# Altium schematic symbol library PBL - Capacitors.SCHLIB: 105 symbols (part 2 of 2)
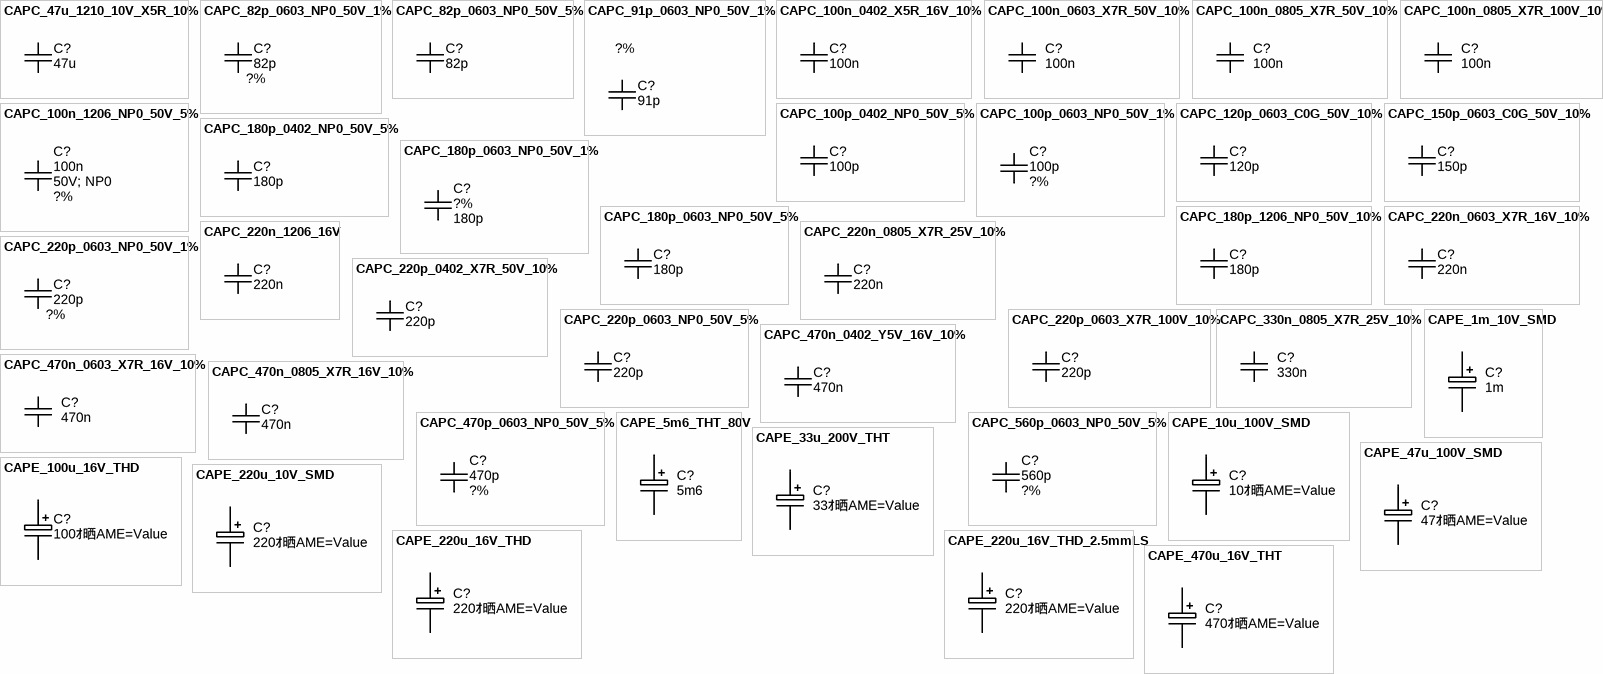
[diagram p3: symbols CAPC_47u_1210_10V_X5R_10% to CAPE_470u_16V_THT]

## CAPC_220n_0805_X7R_25V_10%
designator C?, comment value 220n  (hidden comment: approved sub OK)
Capacitor SMD Cer 220nF 10% 25V X7R 0805; Manufacturer 1: Murata Electronics North America; Manufacturer Part Number 1: GRM219R71E224KA01D; Tolerance: ?0%; Ratings: 25V; X7R; SCDType: undef; Package / Case: 0805 (2012 metric); Supplier 1: Digi-Key; Supplier Part Number 1: 490-1675-1-ND
footprint CAPC2012X135N (Chip Capacitor, Body 2.0x1.2mm, 0805, IPC Medium Density)
pins: 1, 2

## CAPC_220n_1206_16V
designator C?, comment value 220n  (hidden comment: approved sub OK)
Capacitor SMD Cer 220nF 10% 16V X7R 1206; Manufacturer 1: Murata; Manufacturer Part Number 1: GRM319R71C224KA01D; Tolerance: ?0%; Ratings: 16V; X7R; SCDType: spec; Package / Case: 1206 (3216 metric); Supplier 1: Mouser; Supplier Part Number 1: 81-GRM426X224K016D
footprint CAPC3216X180N (Chip Capacitor, Body 3.2x1.6mm, 1.8mm H, 1206, IPC Medium Density)
pins: 1, 2

## CAPC_220p_0402_X7R_50V_10%
designator C?, comment value 220p  (hidden comment: approved sub OK)
Capacitor SMD Cer 220pF 10% 0402 X7R 50V; Manufacturer 1: TDK Corporation; Manufacturer Part Number 1: C1005X7R1H221K050BA; Tolerance: ?0%; Ratings: 50V; X7R; SCDType: undef; Operating Temperature: -55ｰC ~ 125ｰC; Package / Case: 0402 (1005 Metric); Supplier 1: Digi-Key; Supplier Part Number 1: 445-1254-1-ND; ComponentLink1URL: http://product.tdk.com/capacitor/mlcc/en/documents/mlcc_commercial_general_en.pdf; ComponentLink1Description: http://product.tdk.com/capacitor/mlcc/en/documents/mlcc_commercial_general_en.pdf
footprint CAPC1005X55N (Chip Capacitor, Body 1.0x0.5mm, 0402, IPC Medium Density)
pins: 1, 2

## CAPC_220p_0603_NP0_50V_1%
designator C?, comment Tolerance: ?%  (hidden comment: 220p)
Capacitor SMD Cer 220pF 1% 50V NP0 0603; Manufacturer 1: AVX Corporation; Manufacturer Part Number 1: 06035A221FAT2A; Ratings: 50V; NP0; SCDType: spec; Operating Temperature: -55ｰC ~ 125ｰC; Package / Case: 0603 (1608 Metric); Size / Dimension: 0.063" L x 0.031" W (1.60mm x 0.80mm); Thickness (Max): 0.037" (0.95mm); Manufacturer 2: TDK Corporation; Manufacturer Part Number 2: C1608C0G1H221F080AA; Supplier 1: Digi-Key; Supplier Part Number 1: 478-3719-1-ND; ComponentLink1URL: http://www.avx.com/docs/Catalogs/ccog.pdf; ComponentLink1Description: http://www.avx.com/docs/Catalogs/ccog.pdf; Supplier 2: Digi-Key; Supplier Part Number 2: 445-5369-1-ND; ComponentLink2URL: http://www.tdk.com/pdf/tight_tol_B11.pdf; ComponentLink2Description: http://www.tdk.com/pdf/tight_tol_B11.pdf; Supplier 3: Digi-Key; Supplier Part Number 3: 399-7876-1-ND; Manufacturer 3: Kemet; Manufacturer Part Number 3: C0603C221F5GACTU; ComponentLink3URL: http://www.kemet.com/datasheets&C0603C221F5GACTU; ComponentLink3Description: http://www.kemet.com/datasheets&C0603C221F5GACTU; Value: 220p
footprint CAPC1608X90N (Chip Capacitor, Body 1.6x0.8mm, 0603, IPC Medium Density)
pins: 1, 2

## CAPC_220p_0603_NP0_50V_5%
designator C?, comment 220p
Capacitor SMD Cer 220pF 5% 50V NP0 0603; Manufacturer 1: Murata Electronics North America; Manufacturer Part Number 1: GRM1885C1H221JA01D; Tolerance: ?%; Ratings: 50V; NP0; Material: Ceramic NP0; SCDType: spec; Package / Case: 0603 (1608 metric); Supplier 1: Digi-Key; Supplier Part Number 1: 490-1435-1-ND; Value: 220p
footprint CAPC1608X90N (Chip Capacitor, Body 1.6x0.8mm, 0603, IPC Medium Density)
pins: 1, 2

## CAPC_220p_0603_X7R_100V_10%
designator C?, comment value 220p  (hidden comment: approved sub OK)
Capacitor SMD Cer 220pF 10% 0603 X7R 100V; Manufacturer 1: AVX Corporation; Manufacturer Part Number 1: 06031C221KAT2A; Tolerance: ?0%; Ratings: 100V; X7R; SCDType: undef; Operating Temperature: -55ｰC ~ 125ｰC; Package / Case: 0603 (1608 metric); Supplier 1: Digi-Key; Supplier Part Number 1: 478-1195-1-ND; ComponentLink1URL: http://www.avx.com/docs/Catalogs/cx7r.pdf; ComponentLink1Description: http://www.avx.com/docs/Catalogs/cx7r.pdf
footprint CAPC1608X90N (Chip Capacitor, Body 1.6x0.8mm, 0603, IPC Medium Density)
pins: 1, 2

## CAPC_330n_0805_X7R_25V_10%
designator C?, comment value 330n  (hidden comment: approved sub OK)
Capacitor SMD Cer 330nF 10% 25V X7R 0805; Manufacturer 1: Kemet; Manufacturer Part Number 1: C0805C334K3RACTU; Tolerance: ?0%; Ratings: 25V; X7R; Material: ceramic; SCDType: spec; Package / Case: 0805 (2012 metric); ComponentLink1URL: http://www.kemet.com/datasheets&C0805C334K3RACTU; ComponentLink1Description: http://www.kemet.com/datasheets&C0805C334K3RACTU; Supplier 1: Digi-Key; Supplier Part Number 1: 399-8071-1-ND
footprint CAPC2012X135N (Chip Capacitor, Body 2.0x1.2mm, 0805, IPC Medium Density)
pins: 1, 2

## CAPC_470n_0402_Y5V_16V_10%
designator C?, comment 470n
Capacitor SMD Cer 470nF -20% +80% 16V Y5V 0402; Manufacturer 1: Murata Electronics North America; Manufacturer Part Number 1: GRM155F51C474ZA01D; Tolerance: ?0%; Ratings: 16V; Y5V; SCDType: spec; Operating Temperature: -55ｰC ~ 125ｰC; Package / Case: 0402 (1005 Metric); Size / Dimension: 0.039" L x 0.020" W (1.00mm x 0.50mm); Supplier 1: Digi-Key; Supplier Part Number 1: 490-3274-1-ND; ComponentLink1URL: http://psearch.murata.com/capacitor/product/GRM155F51C474ZA01#.pdf; ComponentLink1Description: http://psearch.murata.com/capacitor/product/GRM155F51C474ZA01#.pdf; Value: 470n
footprint CAPC1005X55N (Chip Capacitor, Body 1.0x0.5mm, 0402, IPC Medium Density)
pins: 1, 2

## CAPC_470n_0603_X7R_16V_10%
designator C?, comment 470n
Capacitor SMD Cer 470nF 10% 16V X7R 0603; Manufacturer 1: Murata Electronics North America; Manufacturer Part Number 1: GRM188R71C474KA88D; Tolerance: ?0%; Ratings: 16V; X7R; Material: ceramic; SCDType: spec; Package / Case: 0603 (1608 metric); Manufacturer 2: TDK Corporation; Manufacturer Part Number 2: C1608X7R1C474K; Supplier 1: Digi-Key; Supplier Part Number 1: 490-3295-2-ND; Supplier 2: Digi-Key; Supplier Part Number 2: 445-5192-2-ND; Supplier 3: Digi-Key; Supplier Part Number 3: 587-1250-2-ND; Manufacturer 3: Taiyo Yuden; Manufacturer Part Number 3: EMK107B7474KA-T; Manufacturer 4: Samsung; Manufacturer Part Number 4: CL10B474KONE; ComponentLink1URL: http://psearch.murata.com/capacitor/product/GRM188R71C474KA88#.pdf; ComponentLink1Description: http://psearch.murata.com/capacitor/product/GRM188R71C474KA88#.pdf; ComponentLink2URL: http://product.tdk.com/capacitor/mlcc/en/documents/mlcc_commercial_general_en.pdf; ComponentLink2Description: http://product.tdk.com/capacitor/mlcc/en/documents/mlcc_commercial_general_en.pdf; ComponentLink3URL: http://www.yuden.co.jp/or/product/category/capacitor/EMK107B7474KA-T.pdf; ComponentLink3Description: http://www.yuden.co.jp/or/product/category/capacitor/EMK107B7474KA-T.pdf; Value: 470n
footprint CAPC1608X90N (Chip Capacitor, Body 1.6x0.8mm, 0603, IPC Medium Density)
pins: 1, 2

## CAPC_470n_0805_X7R_16V_10%
designator C?, comment value 470n  (hidden comment: approved sub OK)
Capacitor SMD Cer 470nF 10% 16V X7R 0805; Manufacturer 1: AVX Corporation; Manufacturer Part Number 1: 0805YC474KAT2A; Tolerance: ?0%; Ratings: 16V; X7R; SCDType: undef; Supplier 1: Digi-Key; Supplier Part Number 1: 478-1403-1-ND; Operating Temperature: -55ｰC ~ 125ｰC; Package / Case: 0805 (2012 metric)
footprint CAPC2012X135N (Chip Capacitor, Body 2.0x1.2mm, 0805, IPC Medium Density)
pins: 1, 2

## CAPC_470p_0603_NP0_50V_5%
designator C?, comment value 470p  Tolerance: ?%  (hidden comment: approved sub OK)
Capacitor SMD Cer 470pF 5% 50V NP0 0603; Manufacturer 1: AVX Corporation; Manufacturer Part Number 1: 06035A471JAT2A; Ratings: 50V; NP0; Material: ceramic; SCDType: spec; Package / Case: 0603 (1608 metric); Supplier 1: Digi-Key; Supplier Part Number 1: 478-1183-1-ND; Capacitance: 470pF; Voltage - Rated: 50V; Mounting Type: Surface Mount, MLCC; Operating Temperature: -55ｰC ~ 125ｰC; Applications: General Purpose; Size / Dimension: 0.063" L x 0.032" W (1.60mm x 0.81mm); Height - Seated (Max): -; Thickness (Max): 0.035" (0.90mm); Lead Spacing: -; Lead Style: -; ComponentLink1URL: http://www.avx.com/docs/Catalogs/ccog.pdf; ComponentLink1Description: http://www.avx.com/docs/Catalogs/ccog.pdf
footprint CAPC1608X90N (Chip Capacitor, Body 1.6x0.8mm, 0603, IPC Medium Density)
pins: 1, 2

## CAPC_560p_0603_NP0_50V_5%
designator C?, comment value 560p  Tolerance: ?%  (hidden comment: approved sub OK)
Capacitor SMD Cer 560pF 5% 50V NP0 0603; Manufacturer 1: AVX Corporation; Manufacturer Part Number 1: 06035A561JAT2A; Ratings: 50V; NP0; Material: ceramic; Capacitance: 470pF; SCDType: spec; Package / Case: 0603 (1608 metric); Voltage - Rated: 50V; Mounting Type: Surface Mount, MLCC; Operating Temperature: -55ｰC ~ 125ｰC; Applications: General Purpose; Size / Dimension: 0.063" L x 0.032" W (1.60mm x 0.81mm); Height - Seated (Max): -; Thickness (Max): 0.035" (0.90mm); Lead Spacing: -; Lead Style: -; ComponentLink1URL: http://www.avx.com/docs/Catalogs/ccog.pdf; ComponentLink1Description: http://www.avx.com/docs/Catalogs/ccog.pdf; Supplier 1: Digi-Key; Supplier Part Number 1: 478-1184-1-ND
footprint CAPC1608X90N (Chip Capacitor, Body 1.6x0.8mm, 0603, IPC Medium Density)
pins: 1, 2

## CAPE_1m_10V_SMD
designator C?, comment 1m
Capacitor SMD Alum Elec 1mF 20% 10V; Manufacturer 1: Panasonic - ECG; Manufacturer Part Number 1: EEE-FK1A102P; Ratings: 10V; 105ｰC; Tolerance: ?0%; Material: Al; Impedance: 80 mOhm; SCDType: spec; Package / Case: Radial - Surface Mount; Supplier 1: Digi-Key; Supplier Part Number 1: PCE3772CT-ND; Height - Seated (Max): 0.402" (10.20mm); Size / Dimension: 0.394" Dia (10.00mm); Value: 1m
footprint CAP_ELEC_Size G (Capacitor, polarized, aluminum can; 10.0x10.2mm DxH)
pins: 1, 2

## CAPE_5m6_THT_80V
designator C?, comment 5m6
Capacitor THT Electrolytic 5600uF 20% 80V; Manufacturer 1: Panasonic - ECG; Manufacturer Part Number 1: ECO-S1KP562DA; Tolerance: ?0%; Material: Aluminum Electrolytic; SCDType: undef; Package / Case: 30.00mm Dia x 45.00mm H; Ratings: 80V; Supplier 1: Digi-Key; Supplier Part Number 1: P7374-ND; Value: 5m6
footprint CAPE10.0MM_Rad_30x45mm (Footprint not found)
pins: 1, 2

## CAPE_10u_100V_SMD
designator C?
Capacitor SMD Electrolytic 10uF 20% 100V Radial; Manufacturer: Panasonic - ECG; Manufacturer Part Number: EEE-2AA100UP; Tolerance: ?0%; Material: Aluminum Electrolytic; SCDType: spec; Package / Case: Radial - Surface Mount; Ratings: 100V; Supplier 1: Digi-Key; Supplier Part Number 1: PCE3966CT-ND
footprint CAP_ELEC_Size E (Capacitor, polarized, aluminum can; 8.0x6.2mm DxH)
pins: 1, 2
text: 10ｵ晒AME=Value

## CAPE_33u_200V_THT
designator C?
Capacitor THT Alum Elec 33uF 20% 200V; Manufacturer 1: Panasonic - ECG; Manufacturer Part Number 1: EEU-ED2D330; Ratings: 200V; 105ｰC; Tolerance: ?0%; Material: Al; SCDType: undef; Package / Case: Radial; Supplier 1: Digi-Key; Supplier Part Number 1: P13523-ND
footprint CAPE5.0mm
pins: 1, 2
text: 33ｵ晒AME=Value

## CAPE_47u_100V_SMD
designator C?
Capacitor SMD Electrolytic 47uF 20% 100V Radial; Manufacturer 1: Panasonic - ECG; Manufacturer Part Number 1: EEV-TG2A470Q; Tolerance: ?0%; Material: Aluminum Electrolytic; SCDType: undef; Package / Case: Radial - Surface Mount; Ratings: 100V; Supplier 1: Digi-Key; Supplier Part Number 1: PCE3701CT-ND
footprint CAP_ELEC_Size H13 (Capacitor, polarized, aluminum can; 12.5x13.5mm DxH)
pins: 1, 2
text: 47ｵ晒AME=Value

## CAPE_100u_16V_THD
designator C?
Capacitor THD Electrolytic 100uF 20% 16V Radial; Manufacturer: Panasonic - ECG; Manufacturer Part Number: ECA-1CM101; Tolerance: ?0%; Material: Aluminum Electrolytic; SCDType: spec; Package / Case: Radial - Through hole; Ratings: 16V; Supplier 1: Digi-Key; Supplier Part Number 1: P5138-ND
footprint CAPAE200P550X1200_FLAT2
pins: 1, 2
text: 100ｵ晒AME=Value

## CAPE_220u_10V_SMD
designator C?
Capacitor SMD Alum Elec 220uF 20% 10V; Manufacturer 1: Panasonic - ECG; Manufacturer Part Number 1: EEE-FK1A221P; Ratings: 10V; 105ｰC; Tolerance: ?0%; Material: Al; SCDType: undef; Package / Case: Radial - Surface Mount; Supplier 1: Digi-Key; Supplier Part Number 1: PCE3775CT-ND
footprint CAP_ELEC_Size E (Capacitor, polarized, aluminum can; 6.20mm L X 8mm D)
pins: 1, 2
text: 220ｵ晒AME=Value

## CAPE_220u_16V_THD
designator C?
Capacitor THT Alum Elec 220uF 20% 16V; Manufacturer 1: Nichicon; Manufacturer Part Number 1: UPW1C221MPD; Ratings: 16V; 80ｰC; Tolerance: ?0%; Material: Al; SCDType: undef; Manufacturer 2: Zhuhai Gree Xinyuan Electric; Manufacturer Part Number 2: CD11C-220-16V; Package / Case: radial 8.0D x 7.0H x 3.5mm pitch; Supplier 1: Digi-Key; Supplier Part Number 1: 493-1783-ND
footprint CAPE3.5mm
pins: 1, 2
text: 220ｵ晒AME=Value

## CAPE_220u_16V_THD_2.5mmLS
designator C?
Capacitor THT Alum Elec 220uF 20% 16V 2.5mmLS; Manufacturer 1: Nichicon; Manufacturer Part Number 1: UVR1C221MED; Ratings: 16V; 80ｰC; Tolerance: ?0%; Material: Al; SCDType: undef; Package / Case: radial 6.3D x 11.0H x 2.5mm pitch; Supplier 1: Digi-Key; Supplier Part Number 1: 493-1041-ND
footprint CAPE2.5mm_max6.8x12.5mm
pins: 1, 2
text: 220ｵ晒AME=Value

## CAPE_470u_16V_THT
designator C?
Capacitor THT Alum Elec 470uF 20% 16V; Manufacturer 1: NICHICON; Manufacturer Part Number 1: UHM1C471MPD6; Ratings: 16V; 105ｰC; Tolerance: ?0%; Material: Al Electrolytic; SCDType: undef; Package / Case: Radial; Supplier 1: Newark; Supplier Part Number 1: 54K8151; Manufacturer 2: JD; Manufacturer Part Number 2: GT470UF16V_10x12mm
footprint CAPE10.0MM_Rad_10x14mm (10mm Pitch Radial Capacitor 10x14mm DxH)
pins: 1, 2
text: 470ｵ晒AME=Value

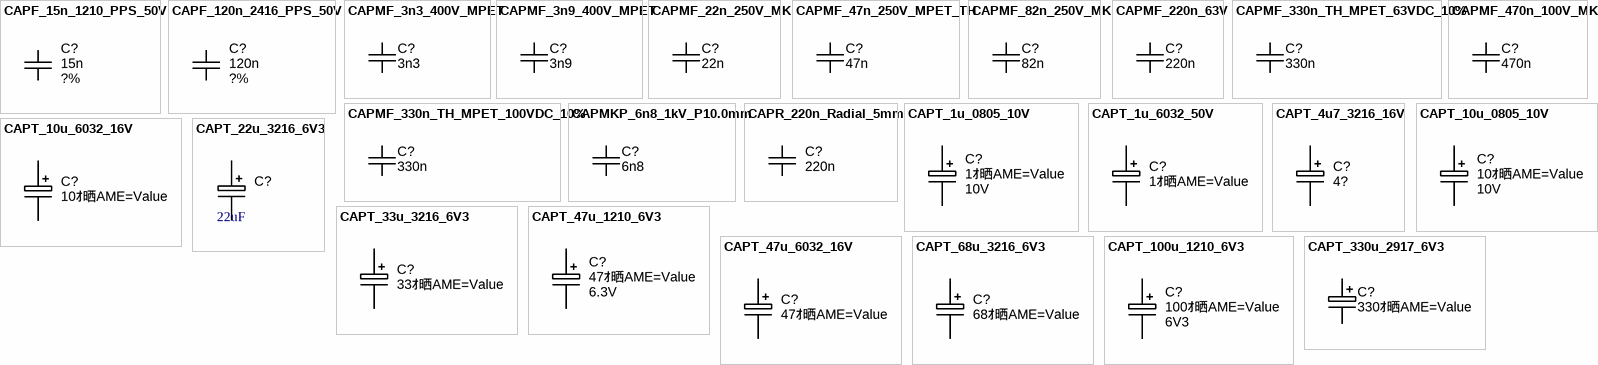
[diagram p2: symbols CAPF_15n_1210_PPS_50V to CAPT_330u_2917_6V3]

## CAPF_15n_1210_PPS_50V
designator C?, comment value 15n  Tolerance: ?%  (hidden comment: Polyphenylene Sulphide (PPS))
Capacitor SMD PPS Film 15nF 2% 50V 1210; Manufacturer 1: Panasonic - ECG; Manufacturer Part Number 1: ECH-U1H153GX5; Ratings: 50 V; PPS Film; SCDType: spec; Package / Case: 1210 (3225 Metric); Material: Polyphenylene Sulphide (PPS); Supplier 1: Digi-Key; Supplier Part Number 1: PCF1310CT-ND; Voltage Rating - DC: 50V; Operating Temperature: -55ｰC ~ 125ｰC; Mounting Type: Surface Mount; ComponentLink1URL: http://industrial.panasonic.com/www-cgi/jvcr13pz.cgi?E+PZ+3+ABD0013+ECHU1H153GX5+7+WW; ComponentLink1Description: http://industrial.panasonic.com/www-cgi/jvcr13pz.cgi?E+PZ+3+ABD0013+ECHU1H153GX5+7+WW; Height - Seated (Max): 0.051" (1.30mm)
footprint CAPC3225X220N (Chip Capacitor, Body 3.2x2.5mm, 1210, IPC Medium Density)
pins: 1, 2

## CAPF_120n_2416_PPS_50V
designator C?, comment value 120n  Tolerance: ?%  (hidden comment: Polyphenylene Sulphide (PPS))
Capacitor SMD PPS Film 120nF 2% 50V 2416; Manufacturer 1: Panasonic - ECG; Manufacturer Part Number 1: ECH-U1H124GX9; Ratings: 50 V; PPS Film; SCDType: spec; Package / Case: 2416 (6041 Metric); Supplier 1: Digi-Key; Supplier Part Number 1: PCF1553CT-ND; Material: Polyphenylene Sulphide (PPS)
footprint CAPC6041X210N (Stacked film capacitor, Body 6.0x4.1mm, 2416, IPC Nominal settings)
pins: 1, 2

## CAPMF_3n3_400V_MPET
designator C?, comment 3n3
Capacitor THD Metallized PET Film 3.3nF 10% 400V; Manufacturer 1: Wing Fu Technology; Manufacturer Part Number 1: CL21-332-K-400V-7.5; Tolerance: ?0%; Material: Metallized Polyester; SCDType: spec; Package / Case: 10.5L x 6.0W x 9.0H x 7.5mm Pitch; Ratings: 400V; Value: 3n3
footprint CAPMF5.0-7.5mm_SL (Capacitor, THT, Metallized Polyester Film)
pins: 1, 2

## CAPMF_3n9_400V_MPET
designator C?, comment 3n9
Capacitor THD Metallized PET Film 3.9nF 10% 400V; Manufacturer 1: Wing Fu Technology; Manufacturer Part Number 1: CL21-392-K-400V-7.5; Tolerance: ?0%; Material: Metallized Polyester; SCDType: spec; Package / Case: 10.5L x 6.0W x 9.0H x 7.5mm Pitch; Ratings: 400V; Value: 3n9
footprint CAPMF5.0-7.5mm_SL (Capacitor, THT, Metallized Polyester Film)
pins: 1, 2

## CAPMF_22n_250V_MK
designator C?, comment 22n
Capacitor THD MK Film 22nF 10% 250V; Manufacturer 1: Panasonic - ECG; Manufacturer Part Number 1: ECQ-E2223KF; Tolerance: ?0%; Material: Metallized Polyester; SCDType: undef; Package / Case: 12.0L x 5.5T x 9.0H x 10.0mm Pitch; Ratings: 250V; Supplier 1: Digi-Key; Supplier Part Number 1: EF2223-ND; Value: 22n
footprint CAPMF12.5x4.5x9.0x10mmLS (Capacitor, MF, Thru-Hole, Dipped Radial; Body 12.5 x 4.5 x 9.0 mm (WxTxH) Pin Spacing 10.0 mm (typ))
pins: 1, 2

## CAPMF_47n_250V_MPET_TH
designator C?, comment 47n
Capacitor THD Metallized PET Film 47nF 5% 250V; Manufacturer 1: EPCOS Inc; Manufacturer Part Number 1: B32529C3473J; Tolerance: ?%; Ratings: 250VDC; 160VAC; Material: Metallized Polyester; Dielectric Material: Polyester, Metallized; SCDType: source; Supplier 1: Digi-Key; Supplier Part Number 1: 495-1190-ND; ESR (Equivalent Series Resistance): -; Operating Temperature: -55ｰC ~ 125ｰC; Size / Dimension: 0.284" L x 0.138" W (7.20mm x 3.50mm); Height - Seated (Max): 0.315" (8.00mm); ComponentLink1URL: http://www.epcos.com/inf/20/20/db/fc_2009/MKT_B32520_529.pdf; ComponentLink1Description: http://www.epcos.com/inf/20/20/db/fc_2009/MKT_B32520_529.pdf; Value: 47n
footprint CAPM50P720350X800_FLAT (Capacitor, THT, Metallized Polyester Film with 7.2x3.5x8.0mm LxTxH)
pins: 1, 2

## CAPMF_82n_250V_MK
designator C?, comment 82n
Capacitor THD MK Film 82nF 10% 250V; Manufacturer 1: Panasonic - ECG; Manufacturer Part Number 1: ECQ-E2823KF; Tolerance: ?0%; Material: Metallized Polyester; SCDType: undef; Package / Case: 12.0L x 5.5T x 9.0H x 10.0mm Pitch; Ratings: 250V; Supplier 1: Digi-Key; Supplier Part Number 1: EF2823-ND; Value: 82n
footprint CAPMF12.5x4.5x9.0x10mmLS (Capacitor, MF, Thru-Hole, Dipped Radial; Body 12.5 x 4.5 x 9.0 mm (WxTxH) Pin Spacing 10.0 mm (typ))
pins: 1, 2

## CAPMF_220n_63V
designator C?, comment 220n
Capacitor, THT, metallized polyester; Manufacturer 1: SunTan; Manufacturer Part Number 1: TS03-224J-63V-7.5; Tolerance: ?%; Ratings: 63V; Material: Metallized Polyester; Epoxy Resin; SCDType: undef; Package / Case: 10.2L x 5.0W x 7.5mm Pitch; Value: 220n
footprint CAPMF7.5mm (Capacitor, THT, Metallized Polyester Film)
pins: 1, 2

## CAPMF_330n_TH_MPET_63VDC_10%
designator C?, comment 330n
Capacitor THD Metallized PET Film 330nF 10% 63VDC; Manufacturer 1: EPCOS Inc; Manufacturer Part Number 1: B32529C334K; Tolerance: ?0%; Ratings: 63VDC; 40VAC; Material: Metallized Polyester; SCDType: source; Package / Case: Radial; Operating Temperature: -55ｰC ~ 125ｰC; ComponentLink1URL: http://www.epcos.com/inf/20/20/db/fc_2009/MKT_B32520_529.pdf; ComponentLink1Description: http://www.epcos.com/inf/20/20/db/fc_2009/MKT_B32520_529.pdf; Supplier 1: Digi-Key; Supplier Part Number 1: 495-2548-ND; Height - Seated (Max): 6.50mm; Lead Spacing: 5.00mm; Size / Dimension: 7.20mm L x 3.00mm W max; Value: 330n
footprint CAPM50P720300X650_FLAT (Capacitor, THT, Metallized Polyester Film with 7.2x3.0x6.5mm LxTxH)
footprint CAPM50P720300X650_VERT (Capacitor, THT, Metallized Polyester Film with 7.2x3.0x6.5mm LxTxH)
pins: 1, 2

## CAPMF_330n_TH_MPET_100VDC_10%
designator C?, comment 330n
Capacitor THD Metallized PET Film 330nF 10% 100VDC; Manufacturer 1: EPCOS Inc; Manufacturer Part Number 1: B32529C1334J; Tolerance: ?0%; Ratings: 100VDC; 63VAC; Material: Metallized Polyester; SCDType: undef; Package / Case: Radial; Operating Temperature: -55ｰC ~ 125ｰC; ComponentLink1URL: http://www.epcos.com/inf/20/20/db/fc_2009/MKT_B32520_529.pdf; ComponentLink1Description: http://www.epcos.com/inf/20/20/db/fc_2009/MKT_B32520_529.pdf; Height - Seated (Max): 8.0mm; Lead Spacing: 5.00mm; Size / Dimension: 7.20mm L x 3.50mm T max; Supplier 1: Digi-Key; Supplier Part Number 1: 495-1158-ND; Value: 330n
footprint CAPM50P720350X800_FLAT (Capacitor, THT, Metallized Polyester Film with 7.2x3.5x8.0mm LxTxH)
pins: 1, 2

## CAPMF_470n_100V_MK
designator C?, comment 470n
Capacitor THD MK Film 470nF 10% 100V; Manufacturer 1: Panasonic - ECG; Manufacturer Part Number 1: ECQ-E1474KF; Tolerance: ?0%; Material: Metallized Polyester; SCDType: undef; Package / Case: 12.5L x 4.5T x 9.0H x 10.0mm Pitch; Ratings: 100V; Supplier 1: Digi-Key; Supplier Part Number 1: EF1474-ND; Value: 470n
footprint CAPR7.62-6.8x2.5 (Capacitor, MF, Thru-Hole, Dipped Radial; Body 6.8 x 2.5 mm (WxT) Pin Spacing 7.62 mm (typ))
pins: 1, 2

## CAPMKP_6n8_1kV_P10.0mm
designator C?, comment 6n8
Capacitor THT metallized polypropylene 6.8nF 5% 1kV 10.0mm pitch; Manufacturer 1: EPCOS Inc; Manufacturer Part Number 1: B32671L0682J000; Tolerance: ?%; Material: Metallized Polypropylene Film; SCDType: source/; Package / Case: 13.0x5.0x11.0x10.0mm LWHP; Ratings: 1kV; Supplier 1: Digi-Key; Supplier Part Number 1: 495-3200-ND; Value: 6n8
footprint CAPMF13.0x5.0x11.0x10.0mm LxWxHxP (Capacitor, THT, Metallized Polypropylene Film, 10mm lead pitch)
pins: 1, 2

## CAPR_220n_Radial_5mm
designator C?, comment value 220n  (hidden comment: approved sub OK)
Capacitor Ceramic 220nF 10% 50V X7R radial 5mm lead spacing; Manufacturer 1: TDK Corporation; Manufacturer Part Number 1: FK24X7R1H224K; Tolerance: ?0%; Ratings: 50V; X7R; SCDType: spec; Material: ceramic; Supplier 1: Digi-Key; Supplier Part Number 1: 445-2855-ND; Package / Case: 0.217" L x 0.177" W (5.50mm x 4.50mm) radial 5mm LS; Operating Temperature: -55ｰC ~ 125ｰC; ComponentLink1URL: http://www.tdk.co.jp/tefe02/e4941_fk.pdf; ComponentLink1Description: e4941_fk datasheet
footprint CAPC500P450250X550 (TDK FK24 radial ceramic capacitor)
pins: 1, 2

## CAPT_1u_0805_10V
designator C?  Ratings: 10V
Capacitor SMD Tantalum 1uF 20% 10V 0805; Manufacturer 1: AVX Corporation; Manufacturer Part Number 1: TAJP106M010RNJ; Manufacturer Size Code: P; Tolerance: ?0%; ESR (Equivalent Series Resistance): 6.000 Ohm; Type: Molded; SCDType: spec; Package / Case: 0805 (2012 metric); Material: Tantalum; Supplier 1: Digi-Key; Supplier Part Number 1: 478-3281-1-ND; Operating Temperature: -55ｰC ~ 125ｰC; Size / Dimension: 0.081" L x 0.053" W (2.05mm x 1.35mm); Height - Seated (Max): 0.059" (1.50mm); ComponentLink1URL: http://www.avx.com/docs/Catalogs/tajlp.pdf; ComponentLink1Description: http://www.avx.com/docs/Catalogs/tajlp.pdf
footprint CAPMP2012X150USR (Molded body capacitor, Body 2.0x1.2mm, 0805, IPC Medium Density)
pins: 1, 2
text: 1ｵ晒AME=Value

## CAPT_1u_6032_50V
designator C?
Capacitor SMD Tantalum 1uF 10% 50V EIA 6032-28; Manufacturer: Vishay/Sprague; Manufacturer Part Number: 293D105X9050C2TE3; Tolerance: ?0%; SCDType: undef; Package / Case: EIA 6032-28; Ratings: 50V; Material: Tantalum; Supplier 1: Digi-Key; Supplier Part Number 1: 718-1041-1-ND
footprint CAPMP6032X280N (Capacitor, polarized, Molded Body, EIA 535BAAC size C; 6.00mm L X 3.20mm W X 2.80mm H)
pins: 1, 2
text: 1ｵ晒AME=Value

## CAPT_4u7_3216_16V
designator C?, comment 4?
Capacitor SMD Tantalum 4.7uF 10% 16V 3216-18; Manufacturer 1: Vishay/Sprague; Manufacturer Part Number 1: 293D475X9016A2TE3; Tolerance: ?0%; SCDType: undef; Package / Case: EIA 535BAAC size A; Ratings: 16V; Material: Tantalum; Supplier 1: Digi-Key; Supplier Part Number 1: 718-1148-1-ND; Value: 4?
footprint CAPMP3216X180N (Capacitor, polarized, Molded Body, EIA 535BAAC size A; 3.20mm L X 1.60mm W X 1.80mm H)
pins: 1, 2

## CAPT_10u_0805_10V
designator C?  Ratings: 10V
Capacitor SMD Tantalum 10uF 20% 10V 0805; Manufacturer 1: AVX Corporation; Manufacturer Part Number 1: TAJP106M010RNJ; Tolerance: ?0%; SCDType: spec; Package / Case: 0805 (2012 metric); Material: Tantalum; Supplier 1: Digi-Key; Supplier Part Number 1: 478-3281-1-ND
footprint CAPMP2012X150USR (Molded body capacitor, Body 2.0x1.2mm, 0805, IPC Medium Density)
pins: 1, 2
text: 10ｵ晒AME=Value

## CAPT_10u_6032_16V
designator C?
Capacitor SMD Tantalum 10uF 20% 16V EIA 6032-28; Manufacturer 1: Vishay/Sprague; Manufacturer Part Number 1: 293D106X0016C2TE3; Tolerance: ?0%; SCDType: undef; Package / Case: EIA 6032-28; Ratings: 16V; Material: Tantalum; Supplier 1: Digi-Key; Supplier Part Number 1: 718-1042-1-ND
footprint CAPMP6032X280N (Capacitor, polarized, Molded Body, EIA 535BAAC size C; 6.00mm L X 3.20mm W X 2.80mm H)
pins: 1, 2
text: 10ｵ晒AME=Value

## CAPT_22u_3216_6V3
designator C?, comment value 22uF  (hidden comment: Capacitor SMD Tantalum)
Capacitor SMD Tantalum 22uF 10% 6.3V 3216-18; Manufacturer 1: Kemet; Manufacturer Part Number 1: T491A226K006AT; Ratings: 22uF / 6.3V; Tolerance: ?0%; Material: Solid Tantalum; SCDType: source; Package / Case: EIA 535BAAC size A; Supplier 1: Digi-Key; Supplier Part Number 1: 399-8279-1-ND; ComponentLink1URL: http://www.kemet.com/kemet/web/homepage/kechome.nsf/file/T491%20Series/$file/KEM_T2005_T491.pdf; ComponentLink1Description: http://www.kemet.com/kemet/web/homepage/kechome.nsf/file/T491%20Series/$file/KEM_T2005_T491.pdf; Supplier 2: Digi-Key; Supplier Part Number 2: 718-1139-1-ND; Manufacturer 2: Vishay Sprague; Manufacturer Part Number 2: 293D226X96R3A2TE3; ComponentLink2URL: http://www.vishay.com/doc?40002; ComponentLink2Description: http://www.vishay.com/doc?40002; Supplier 3: Digi-Key; Supplier Part Number 3: 478-3865-1-ND; Manufacturer 3: AVX Corporation; Manufacturer Part Number 3: TAJA226K006RNJ; ComponentLink3URL: http://www.avx.com/docs/Catalogs/taj.pdf; ComponentLink3Description: http://www.avx.com/docs/Catalogs/taj.pdf
footprint CAPMP3216X180N (Capacitor, polarized, Molded Body, EIA 535BAAC size A; 3.20mm L X 1.60mm W X 1.80mm H)
pins: 1, 2

## CAPT_33u_3216_6V3
designator C?
Capacitor SMD Tantalum 33uF 10% 6.3V 3216-18; Manufacturer 1: Kemet; Manufacturer Part Number 1: T491A336K006AT; Tolerance: ?0%; Material: Solid Tantalum; SCDType: source; Package / Case: EIA 535BAAC size A; Ratings: 6.3V; ComponentLink2URL: http://www.avx.com/docs/Catalogs/tcj.pdf; ComponentLink2Description: http://www.avx.com/docs/Catalogs/tcj.pdf; Supplier 1: Digi-Key; Supplier Part Number 1: 399-9716-1-ND; ComponentLink1URL: http://capacitoredge.kemet.com/capedge2/DataSheet?pn=T491A336K006AT; ComponentLink1Description: http://capacitoredge.kemet.com/capedge2/DataSheet?pn=T491A336K006AT; Supplier 2: Digi-Key; Supplier Part Number 2: 478-1666-1-ND; Manufacturer 2: AVX Corporation; Manufacturer Part Number 2: TAJA336K006RNJ; Manufacturer 4: Samsung Electro-Mechanics; Manufacturer Part Number 4: TCSCS0J336KAAR; ComponentLink4URL: http://components.arrow.com/partservice/dataview/altium/51540102S9917798N4139?apiKey=aa438727d59eed98c4bed826d8d949c84cb5e685b92bf87346a0226bd2658797; ComponentLink4Description: http://components.arrow.com/partservice/dataview/altium/51540102S9917798N4139?apiKey=aa438727d59eed98c4bed826d8d949c84cb5e685b92bf87346a0226bd2658797; Supplier 3: Digi-Key; Supplier Part Number 3: 293D336X96R3A2TE3-ND; Manufacturer Part Number 3: 293D336X96R3A2TE3; Manufacturer 3: Vishay Sprague; ComponentLink3URL: http://www.vishay.com/doc?40002; ComponentLink3Description: http://www.vishay.com/doc?40002; Supplier 4: Arrow; Supplier Part Number 4: 51540102S9917798N4139
footprint CAPMP3216X180N (Capacitor, polarized, Molded Body, EIA 535BAAC size A; 3.20mm L X 1.60mm W X 1.80mm H)
pins: 1, 2
text: 33ｵ晒AME=Value

## CAPT_47u_1210_6V3
designator C?  Ratings: 6.3V
Capacitor SMD Tantalum 47uF 20% 6.3V 1210; Manufacturer 1: AVX Corporation; Manufacturer Part Number 1: TCJB476M006R0070; Manufacturer Size Code: B; Tolerance: ?0%; Voltage - Rated: 6V3; ESR (Equivalent Series Resistance): 70.0 mOhm; Type: Molded; SCDType: spec; Package / Case: 1210 (3528 Metric); Material: Tantalum; Supplier 1: Digi-Key; Supplier Part Number 1: 478-3139-1-ND; Operating Temperature: -55ｰC ~ 125ｰC; Size / Dimension: 0.138" L x 0.110" W (3.50mm x 2.80mm); Height - Seated (Max): 0.083" (2.10mm); ComponentLink1URL: http://www.avx.com/docs/Catalogs/tcj.pdf; ComponentLink1Description: http://www.avx.com/docs/Catalogs/tcj.pdf
footprint CAPMP3528X210N (Molded body capacitor, Body 3.5x2.8mm, 1210, IPC Nominal settings)
pins: 1, 2
text: 47ｵ晒AME=Value

## CAPT_47u_6032_16V
designator C?
Capacitor SMD Tantalum 47uF 10% 16V 6032-28; Manufacturer 1: Vishay/Sprague; Manufacturer Part Number 1: TR3C476K016C0300; Tolerance: ?0%; SCDType: undef; Package / Case: EIA 535BAAC size C; Ratings: 16V; Material: Tantalum; Supplier 1: Digi-Key; Supplier Part Number 1: 718-1332-1-ND
footprint CAPMP6032X280N (Capacitor, polarized, Molded Body, EIA 535BAAC size C; 6.00mm L X 3.20mm W X 2.80mm H)
pins: 1, 2
text: 47ｵ晒AME=Value

## CAPT_68u_3216_6V3
designator C?
Capacitor SMD Tantalum 68uF 10% 6.3V EIA 3216-18; Manufacturer 1: Kemet; Manufacturer Part Number 1: T491A686K006AT; Manufacturer Size Code: A; Tolerance: ?0%; Material: Solid Tantalum; ESR (Equivalent Series Resistance): 4.000 Ohm; SCDType: spec; Package / Case: 1206 (3216 Metric); Ratings: 6.3V; Supplier 1: Digi-Key; Supplier Part Number 1: 399-4698-1-ND; Operating Temperature: -55ｰC ~ 125ｰC; Size / Dimension: 0.126" L x 0.063" W (3.20mm x 1.60mm); Height - Seated (Max): 0.071" (1.80mm); ComponentLink1URL: http://www.kemet.com/datasheets&T491A686K006AT; ComponentLink1Description: http://www.kemet.com/datasheets&T491A686K006AT
footprint CAPMP3216X180N (Capacitor, polarized, Molded Body, EIA 535BAAC size A; 3.20mm L X 1.60mm W X 1.80mm H)
pins: 1, 2
text: 68ｵ晒AME=Value

## CAPT_100u_1210_6V3
designator C?  Ratings: 6V3
Capacitor SMD Tantalum 100uF 20% 6.3V 1210; Manufacturer 1: AVX Corporation; Manufacturer Part Number 1: TCJB107M006R0045; Tolerance: ?0%; SCDType: spec; Package / Case: 1210 (3528 Metric); Material: Tantalum; Supplier 1: Digi-Key; Supplier Part Number 1: 478-4711-1-ND
footprint CAPMP3528X210N (Molded body capacitor, Body 3.5x2.8mm, 1210, IPC Nominal settings)
pins: 1, 2
text: 100ｵ晒AME=Value

## CAPT_330u_2917_6V3
designator C?
Capacitor SMD Tant 330uF 20% 6V3 2917; Manufacturer Size Code: D; Manufacturer Part Number: T520D337M006ATE015; Ratings: 6.3V; Tolerance: ?0%; Material: Solid Tantalum; ESR (Equivalent Series Resistance): 15 mOhm; SCDType: spec; Package / Case: 2917 (7343 Metric); Operating Temperature: -55ｰC ~ 125ｰC; Size / Dimension: 0.287" L x 0.169" W (7.30mm x 4.30mm); Height - Seated (Max): 0.122" (3.10mm); Supplier 1: Digi-Key; Supplier Part Number 1: 399-4052-1-ND; ComponentLink1URL: http://www.kemet.com/datasheets&T520D337M006ATE015; ComponentLink1Description: T520D Datasheet
footprint CAPMP7343X310N (Molded body capacitor, Body 7.3x4.3mm, 2917, IPC Nominal settings)
pins: 1, 2
text: 330ｵ晒AME=Value